# Altium schematic symbol library IPB017N10N5ATMA1.SchLib: 1 symbol
Pins are listed as number, name and electrical type; pins without a type are passive.

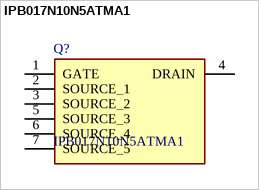
[diagram p0: symbol IPB017N10N5ATMA1]

## IPB017N10N5ATMA1
designator Q?
N-Channel 100 V 180A (Tc) 375W (Tc) Surface Mount PG-TO263-7; Manufacturer_Name: Infineon; Geometry.Height: 4.82mm; Mouser Part Number: 726-IPB017N10N5ATMA1; Mouser Price/Stock: https://www.mouser.co.uk/ProductDetail/Infineon-Technologies/IPB017N10N5ATMA1?qs=3Bi3m9r5MQZXrupZoiX5%252BA%3D%3D; Manufacturer_Part_Number: IPB017N10N5ATMA1; Datasheet Link: https://www.digikey.com/en/products/detail/infineon-technologies/IPB017N10N5ATMA1/5213937?msockid=3bdc366bbe0663d83c1223c0bf3662a6
footprint IPB017N10N5ATMA1
pins: 1 GATE, 2 SOURCE_1, 3 SOURCE_2, 4 DRAIN, 5 SOURCE_3, 6 SOURCE_4, 7 SOURCE_5